# Altium schematic symbol library R1224N102M.SchLib: 1 symbol
Pins are listed as number, name and electrical type; pins without a type are passive.

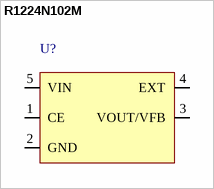
[diagram p0: symbol R1224N102M]

## R1224N102M
designator U?  (value not drawn)
pins: 1 CE "Chip Enable Active High", 2 GND "Ground", 3 VOUT/VFB "Output Voltage Monitor / Feedback Voltage", 4 EXT "External Transistor Drive Pin (CMOS Output)", 5 VIN "Power Supply Pin"